# Altium integrated library INDUCTOR_200uH.IntLib: 1 symbol
Pins are listed as number, name and electrical type; pins without a type are passive.

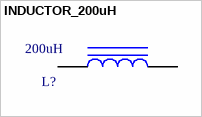
[diagram p0: symbol INDUCTOR_200uH]

## INDUCTOR_200uH
designator L?, comment 200uH
Inductor 200uH; SnapEDA_Link: *; Availability: Unavailable; Price: None; Value: *
pins: 1, 2